# Altium schematic symbol library 2ohmVishay.SchLib: 1 symbol
Pins are listed as number, name and electrical type; pins without a type are passive.

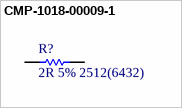
[diagram p0: symbol CMP-1018-00009-1]

## CMP-1018-00009-1
designator R?, comment 2R 5% 2512(6432)
2R 1W 5% 2512 (6432 Metric)  SMD; Case-EIA: 2512; Value: 2.00 Ohm; Case-Metric: 6432; Technology: SMT; Tolerance: 5 %; Power: 1 W
footprint RESC2512(6432)_N (Chip Resistor, Body 6.4x3.2mm, IPC Medium Density)
footprint RESC2512(6432)_L (Chip Resistor, Body 6.4x3.2mm, IPC High Density)
footprint RESC2512(6432)_M (Chip Resistor, Body 6.4x3.2mm, IPC Low Density)
pins: 1, 2
1 alternate drawing of the same symbol